# Altium schematic symbol library Panasonic.SchLib: 1 symbol
Pins are listed as number, name and electrical type; pins without a type are passive.

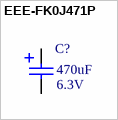
[diagram p0: symbol EEE-FK0J471P]

## EEE-FK0J471P
designator C?  value 470uF  Voltage: 6.3V
CAP ALUM 470UF 20% 6.3V SMD; Part}Number: EEE-FK0J471P; Manufacturer: Panasonic
footprint CAP_ALUM_SIZE_F
pins: 1, 2